# Altium footprint library WR-WTB.PcbLib: 259 footprints (part 15 of 17)
Each footprint in its own frame and in the unit in brackets; x right, y up, seen from the top. Pads: shape width x height; smd on the part's side, far side on the other; paste and mask are expansions set on the pad; w line width, h text height; cw(c..) or ccw(c..) is an arc to the next point about the centre after c.
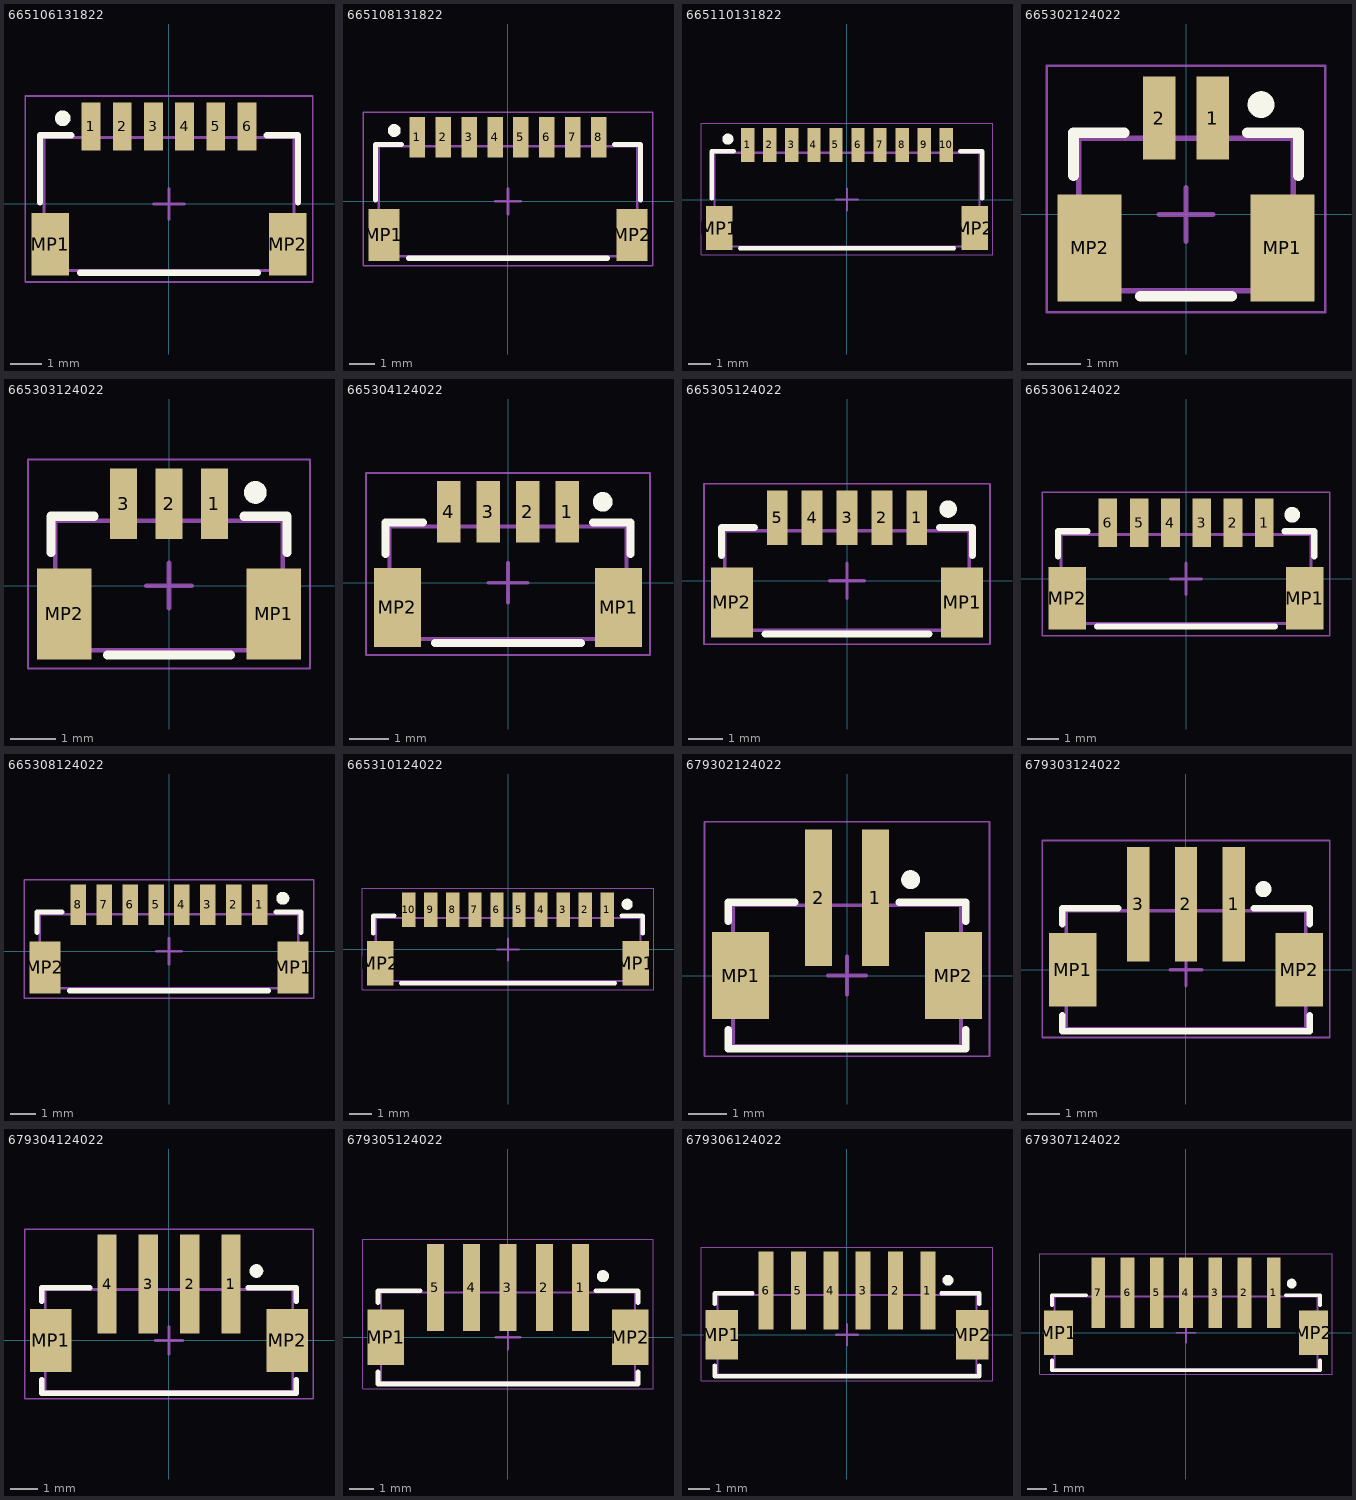
[diagram p14: the footprints below, top view; thin cyan lines are the x and y axes]

## 665106131822 [mm] "1.00 mm SMT Male Horizontal Shrouded, 6p"
height 3.1
pads (8):
  rect 0.6x1.55 smd: 1(-2.5,2.48) 2(-1.5,2.48) 3(-0.5,2.48) 4(0.5,2.48) 5(1.5,2.48) 6(2.5,2.48)
  rect 1.2x2 smd: MP1(-3.8,-1.295) MP2(3.8,-1.295)
Top Overlay:
  circle w0.25: c-3.4,2.743 r0.125
  lines w0.2: -4.125,0.05 -4.125,2.2 -3.125,2.2 ; -2.85,-2.2 2.85,-2.2 ; 3.125,2.2 4.125,2.2 4.125,0.05
Top Assembly:
  lines w0.1: -2.6,2.125 -2.6,2.825 -2.4,2.825 -2.4,2.125 ; -1.6,2.125 -1.6,2.825 -1.4,2.825 -1.4,2.125 ; -0.6,2.125 -0.6,2.825 -0.4,2.825 -0.4,2.125 ; 0.4,2.125 0.4,2.825 0.6,2.825 0.6,2.125 ; 1.4,2.125 1.4,2.825 1.6,2.825 1.6,2.125 ; 2.4,2.125 2.4,2.825 2.6,2.825 2.6,2.125 ; -4,-2.125 4,-2.125 4,2.125 -4,2.125 -4,-2.125
Top Designator:
  text ".Designator" at -3.647,-0.357 h1
Top Courtyard:
  lines w0.05: -4.6,-2.495 -4.6,3.455 4.6,3.455 4.6,-2.495 -4.6,-2.495
Top Component Center:
  lines w0.1: -0.5,0 0.5,0 ; 0,-0.5 0,0.5
3D body "665106131822.stp": height 2.96, standoff 0, extent -4,-2.125 4,2.825

## 665108131822 [mm] "1.00 mm SMT Male Horizontal Shrouded, 8p"
height 3.1
pads (10):
  rect 0.6x1.55 smd: 1(-3.5,2.48) 2(-2.5,2.48) 3(-1.5,2.48) 4(-0.5,2.48) 5(0.5,2.48) 6(1.5,2.48) 7(2.5,2.48) 8(3.5,2.48)
  rect 1.2x2 smd: MP1(-4.8,-1.295) MP2(4.8,-1.295)
Top Overlay:
  circle w0.25: c-4.4,2.743 r0.125
  lines w0.2: -5.125,0.05 -5.125,2.2 -4.125,2.2 ; -3.85,-2.2 3.85,-2.2 ; 4.125,2.2 5.125,2.2 5.125,0.05
Top Assembly:
  lines w0.1: -3.6,2.125 -3.6,2.825 -3.4,2.825 -3.4,2.125 ; -2.6,2.125 -2.6,2.825 -2.4,2.825 -2.4,2.125 ; -1.6,2.125 -1.6,2.825 -1.4,2.825 -1.4,2.125 ; -0.6,2.125 -0.6,2.825 -0.4,2.825 -0.4,2.125 ; 0.4,2.125 0.4,2.825 0.6,2.825 0.6,2.125 ; 1.4,2.125 1.4,2.825 1.6,2.825 1.6,2.125 ; 2.4,2.125 2.4,2.825 2.6,2.825 2.6,2.125 ; 3.4,2.125 3.4,2.825 3.6,2.825 3.6,2.125 ; -5,-2.125 -5,2.125 5,2.125 5,-2.125 -5,-2.125
Top Designator:
  text ".Designator" at -3.647,-0.357 h1
Top Courtyard:
  lines w0.05: -5.6,-2.495 5.6,-2.495 5.6,3.455 -5.6,3.455 -5.6,-2.495
Top Component Center:
  lines w0.1: -0.5,0 0.5,0 ; 0,-0.5 0,0.5
3D body "665108131822.stp": height 2.96, standoff 0, extent -5,-2.125 5,2.825

## 665110131822 [mm] "1.00 mm SMT Male Horizontal Shrouded, 10p"
height 3.1
pads (12):
  rect 0.6x1.55 smd: 1(-4.5,2.48) 2(-3.5,2.48) 3(-2.5,2.48) 4(-1.5,2.48) 5(-0.5,2.48) 6(0.5,2.48) 7(1.5,2.48) 8(2.5,2.48) 9(3.5,2.48) 10(4.5,2.48)
  rect 1.2x2 smd: MP1(-5.8,-1.295) MP2(5.8,-1.295)
Top Overlay:
  circle w0.25: c-5.4,2.743 r0.125
  lines w0.2: -6.125,0.05 -6.125,2.2 -5.125,2.2 ; -4.85,-2.2 4.85,-2.2 ; 5.125,2.2 6.125,2.2 6.125,0.05
Top Assembly:
  lines w0.1: -4.6,2.125 -4.6,2.825 -4.4,2.825 -4.4,2.125 ; -3.6,2.125 -3.6,2.825 -3.4,2.825 -3.4,2.125 ; -2.6,2.125 -2.6,2.825 -2.4,2.825 -2.4,2.125 ; -1.6,2.125 -1.6,2.825 -1.4,2.825 -1.4,2.125 ; -0.6,2.125 -0.6,2.825 -0.4,2.825 -0.4,2.125 ; 0.4,2.125 0.4,2.825 0.6,2.825 0.6,2.125 ; 1.4,2.125 1.4,2.825 1.6,2.825 1.6,2.125 ; 2.4,2.125 2.4,2.825 2.6,2.825 2.6,2.125 ; 3.4,2.125 3.4,2.825 3.6,2.825 3.6,2.125 ; 4.4,2.125 4.4,2.825 4.6,2.825 4.6,2.125 ; -6,-2.125 -6,2.125 6,2.125 6,-2.125 -6,-2.125
Top Designator:
  text ".Designator" at -3.647,-0.357 h1
Top Courtyard:
  lines w0.05: -6.6,-2.495 6.6,-2.495 6.6,3.455 -6.6,3.455 -6.6,-2.495
Top Component Center:
  lines w0.1: -0.5,0 0.5,0 ; 0,-0.5 0,0.5
3D body "665110131822.stp": height 2.96, standoff 0, extent -6,-2.125 6,2.825

## 665302124022 [mm] "1.00 mm SMT Male Vertical Shrouded Header, 2p"
height 3.7
pads (4):
  rect 0.6x1.55 smd: 1(0.5,1.8) 2(-0.5,1.8)
  rect 1.2x2 smd: MP1(1.8,-0.625) MP2(-1.8,-0.625)
Top Overlay:
  circle w0.25: c1.4,2.05 r0.125
  lines w0.2: -2.1,0.725 -2.1,1.525 -1.15,1.525 ; -0.85,-1.525 0.85,-1.525 ; 1.15,1.525 2.1,1.525 2.1,0.725
Top Assembly:
  lines w0.1: -0.6,1.425 -0.6,2.125 -0.4,2.125 -0.4,1.425 ; 0.4,1.425 0.4,2.125 0.6,2.125 0.6,1.425 ; -2,-1.425 -2,1.425 2,1.425 2,-1.425 -2,-1.425
Top Designator:
  text ".Designator" at -3.647,-0.357 h1
Top Courtyard:
  lines w0.05: -2.6,-1.825 -2.6,2.775 2.6,2.775 2.6,-1.825 -2.6,-1.825
Top Component Center:
  lines w0.1: -0.5,0 0.5,0 ; 0,-0.5 0,0.5
3D body "665302124022.stp": height 4.28, standoff -0.02, extent -2,-1.425 2,2.121

## 665303124022 [mm] "1.00 mm SMT Male Vertical Shrouded Header, 3p"
height 3.7
pads (5):
  rect 0.6x1.55 smd: 1(1,1.8) 2(0,1.8) 3(-1,1.8)
  rect 1.2x2 smd: MP1(2.3,-0.625) MP2(-2.3,-0.625)
Top Overlay:
  circle w0.25: c1.9,2.05 r0.125
  lines w0.2: -2.6,0.725 -2.6,1.525 -1.65,1.525 ; -1.35,-1.525 1.35,-1.525 ; 1.65,1.525 2.6,1.525 2.6,0.725
Top Assembly:
  lines w0.1: -1.1,1.425 -1.1,2.125 -0.9,2.125 -0.9,1.425 ; -0.1,1.425 -0.1,2.125 0.1,2.125 0.1,1.425 ; 0.9,1.425 0.9,2.125 1.1,2.125 1.1,1.425 ; -2.5,-1.425 -2.5,1.425 2.5,1.425 2.5,-1.425 -2.5,-1.425
Top Designator:
  text ".Designator" at -3.647,-0.357 h1
Top Courtyard:
  lines w0.05: -3.1,-1.825 -3.1,2.775 3.1,2.775 3.1,-1.825 -3.1,-1.825
Top Component Center:
  lines w0.1: -0.5,0 0.5,0 ; 0,-0.5 0,0.5
3D body "665303124022.stp": height 4.28, standoff -0.02, extent -2.5,-1.425 2.5,2.121

## 665304124022 [mm] "1.00 mm SMT Male Vertical Shrouded Header, 4p"
height 3.7
pads (6):
  rect 0.6x1.55 smd: 1(1.5,1.8) 2(0.5,1.8) 3(-0.5,1.8) 4(-1.5,1.8)
  rect 1.2x2 smd: MP1(2.8,-0.625) MP2(-2.8,-0.625)
Top Overlay:
  circle w0.25: c2.4,2.05 r0.125
  lines w0.2: -3.1,0.725 -3.1,1.525 -2.15,1.525 ; -1.85,-1.525 1.85,-1.525 ; 2.15,1.525 3.1,1.525 3.1,0.725
Top Assembly:
  lines w0.1: -1.6,1.425 -1.6,2.125 -1.4,2.125 -1.4,1.425 ; -0.6,1.425 -0.6,2.125 -0.4,2.125 -0.4,1.425 ; 0.4,1.425 0.4,2.125 0.6,2.125 0.6,1.425 ; 1.4,1.425 1.4,2.125 1.6,2.125 1.6,1.425 ; -3,-1.425 3,-1.425 3,1.425 -3,1.425 -3,-1.425
Top Designator:
  text ".Designator" at -3.647,-0.357 h1
Top Courtyard:
  lines w0.05: -3.6,-1.825 3.6,-1.825 3.6,2.775 -3.6,2.775 -3.6,-1.825
Top Component Center:
  lines w0.1: -0.5,0 0.5,0 ; 0,-0.5 0,0.5
3D body "665304124022.stp": height 4.28, standoff -0.02, extent -3,-1.425 3,2.121

## 665305124022 [mm] "1.00 mm SMT Male Vertical Shrouded Header, 5p"
height 3.7
pads (7):
  rect 0.6x1.55 smd: 1(2,1.8) 2(1,1.8) 3(0,1.8) 4(-1,1.8) 5(-2,1.8)
  rect 1.2x2 smd: MP1(3.3,-0.625) MP2(-3.3,-0.625)
Top Overlay:
  circle w0.25: c2.9,2.05 r0.125
  lines w0.2: -3.6,0.725 -3.6,1.525 -2.65,1.525 ; -2.35,-1.525 2.35,-1.525 ; 2.65,1.525 3.6,1.525 3.6,0.725
Top Assembly:
  lines w0.1: -2.1,1.425 -2.1,2.125 -1.9,2.125 -1.9,1.425 ; -1.1,1.425 -1.1,2.125 -0.9,2.125 -0.9,1.425 ; -0.1,1.425 -0.1,2.125 0.1,2.125 0.1,1.425 ; 0.9,1.425 0.9,2.125 1.1,2.125 1.1,1.425 ; 1.9,1.425 1.9,2.125 2.1,2.125 2.1,1.425 ; -3.5,-1.425 3.5,-1.425 3.5,1.425 -3.5,1.425 -3.5,-1.425
Top Designator:
  text ".Designator" at -3.647,-0.357 h1
Top Courtyard:
  lines w0.05: -4.1,-1.825 4.1,-1.825 4.1,2.775 -4.1,2.775 -4.1,-1.825
Top Component Center:
  lines w0.1: -0.5,0 0.5,0 ; 0,-0.5 0,0.5
3D body "665305124022.stp": height 4.28, standoff -0.02, extent -3.5,-1.425 3.5,2.121

## 665306124022 [mm] "1.00 mm SMT Male Vertical Shrouded Header, 6p"
height 3.7
pads (8):
  rect 0.6x1.55 smd: 1(2.5,1.8) 2(1.5,1.8) 3(0.5,1.8) 4(-0.5,1.8) 5(-1.5,1.8) 6(-2.5,1.8)
  rect 1.2x2 smd: MP1(3.8,-0.625) MP2(-3.8,-0.625)
Top Overlay:
  circle w0.25: c3.4,2.05 r0.125
  lines w0.2: -4.1,0.725 -4.1,1.525 -3.15,1.525 ; -2.85,-1.525 2.85,-1.525 ; 3.15,1.525 4.1,1.525 4.1,0.725
Top Assembly:
  lines w0.1: -2.6,1.425 -2.6,2.125 -2.4,2.125 -2.4,1.425 ; -1.6,1.425 -1.6,2.125 -1.4,2.125 -1.4,1.425 ; -0.6,1.425 -0.6,2.125 -0.4,2.125 -0.4,1.425 ; 0.4,1.425 0.4,2.125 0.6,2.125 0.6,1.425 ; 1.4,1.425 1.4,2.125 1.6,2.125 1.6,1.425 ; 2.4,1.425 2.4,2.125 2.6,2.125 2.6,1.425 ; -4,-1.425 4,-1.425 4,1.425 -4,1.425 -4,-1.425
Top Designator:
  text ".Designator" at -3.647,-0.357 h1
Top Courtyard:
  lines w0.05: -4.6,-1.825 4.6,-1.825 4.6,2.775 -4.6,2.775 -4.6,-1.825
Top Component Center:
  lines w0.1: -0.5,0 0.5,0 ; 0,-0.5 0,0.5
3D body "665306124022.stp": height 4.28, standoff -0.02, extent -4,-1.425 4,2.121

## 665308124022 [mm] "1.00 mm SMT Male Vertical Shrouded Header, 8p"
height 3.7
pads (10):
  rect 0.6x1.55 smd: 1(3.5,1.8) 2(2.5,1.8) 3(1.5,1.8) 4(0.5,1.8) 5(-0.5,1.8) 6(-1.5,1.8) 7(-2.5,1.8) 8(-3.5,1.8)
  rect 1.2x2 smd: MP1(4.8,-0.625) MP2(-4.8,-0.625)
Top Overlay:
  circle w0.25: c4.4,2.05 r0.125
  lines w0.2: -5.1,0.725 -5.1,1.525 -4.15,1.525 ; -3.85,-1.525 3.85,-1.525 ; 4.15,1.525 5.1,1.525 5.1,0.725
Top Assembly:
  lines w0.1: -3.6,1.425 -3.6,2.125 -3.4,2.125 -3.4,1.425 ; -2.6,1.425 -2.6,2.125 -2.4,2.125 -2.4,1.425 ; -1.6,1.425 -1.6,2.125 -1.4,2.125 -1.4,1.425 ; -0.6,1.425 -0.6,2.125 -0.4,2.125 -0.4,1.425 ; 0.4,1.425 0.4,2.125 0.6,2.125 0.6,1.425 ; 1.4,1.425 1.4,2.125 1.6,2.125 1.6,1.425 ; 2.4,1.425 2.4,2.125 2.6,2.125 2.6,1.425 ; 3.4,1.425 3.4,2.125 3.6,2.125 3.6,1.425 ; -5,-1.425 5,-1.425 5,1.425 -5,1.425 -5,-1.425
Top Designator:
  text ".Designator" at -3.647,-0.357 h1
Top Courtyard:
  lines w0.05: -5.6,-1.825 5.6,-1.825 5.6,2.775 -5.6,2.775 -5.6,-1.825
Top Component Center:
  lines w0.1: -0.5,0 0.5,0 ; 0,-0.5 0,0.5
3D body "665308124022.stp": height 4.28, standoff -0.02, extent -5,-1.425 5,2.121

## 665310124022 [mm] "1.00 mm SMT Male Vertical Shrouded Header, 10p"
height 3.7
pads (12):
  rect 0.6x1.55 smd: 1(4.5,1.8) 2(3.5,1.8) 3(2.5,1.8) 4(1.5,1.8) 5(0.5,1.8) 6(-0.5,1.8) 7(-1.5,1.8) 8(-2.5,1.8) 9(-3.5,1.8) 10(-4.5,1.8)
  rect 1.2x2 smd: MP1(5.8,-0.625) MP2(-5.8,-0.625)
Top Overlay:
  circle w0.25: c5.4,2.05 r0.125
  lines w0.2: -6.1,0.725 -6.1,1.525 -5.15,1.525 ; -4.85,-1.525 4.85,-1.525 ; 5.15,1.525 6.1,1.525 6.1,0.725
Top Assembly:
  lines w0.1: -4.6,1.425 -4.6,2.125 -4.4,2.125 -4.4,1.425 ; -3.6,1.425 -3.6,2.125 -3.4,2.125 -3.4,1.425 ; -2.6,1.425 -2.6,2.125 -2.4,2.125 -2.4,1.425 ; -1.6,1.425 -1.6,2.125 -1.4,2.125 -1.4,1.425 ; -0.6,1.425 -0.6,2.125 -0.4,2.125 -0.4,1.425 ; 0.4,1.425 0.4,2.125 0.6,2.125 0.6,1.425 ; 1.4,1.425 1.4,2.125 1.6,2.125 1.6,1.425 ; 2.4,1.425 2.4,2.125 2.6,2.125 2.6,1.425 ; 3.4,1.425 3.4,2.125 3.6,2.125 3.6,1.425 ; 4.4,1.425 4.4,2.125 4.6,2.125 4.6,1.425 ; -6,-1.425 6,-1.425 6,1.425 -6,1.425 -6,-1.425
Top Designator:
  text ".Designator" at -3.647,-0.357 h1
Top Courtyard:
  lines w0.05: -6.6,-1.825 6.6,-1.825 6.6,2.775 -6.6,2.775 -6.6,-1.825
Top Component Center:
  lines w0.1: -0.5,0 0.5,0 ; 0,-0.5 0,0.5
3D body "665310124022.stp": height 4.28, standoff -0.02, extent -6,-1.425 6,2.121

## 679302124022 [mm] "1.50mm SMT Male Vertical Shrouded Header, 2p"
height 5
pads (4):
  rect 0.7x3.6 smd: 1(0.75,2.05) 2(-0.75,2.05)
  rect 1.5x2.3 smd: MP1(-2.8,0) MP2(2.8,0)
Top Overlay:
  circle w0.25: c1.675,2.525 r0.125
  lines w0.2: -3.125,-1.425 -3.125,-1.925 3.125,-1.925 3.125,-1.425 ; -3.125,1.425 -3.125,1.925 -1.375,1.925 ; 1.375,1.925 3.125,1.925 3.125,1.425
Top Assembly:
  lines w0.1: -3,-1.85 -3,1.85 3,1.85 3,-1.85 -3,-1.85
Top Designator:
  text ".Designator" at -3.647,-0.357 h1
Top Courtyard:
  lines w0.05: -3.75,-2.125 -3.75,4.05 3.75,4.05 3.75,-2.125 -3.75,-2.125
Top Component Center:
  lines w0.1: -0.5,0 0.5,0 ; 0,-0.5 0,0.5
3D body "679302124022.stp": height 5.49, standoff -0.01, extent -3,-1.85 3,3.35

## 679303124022 [mm] "1.50mm SMT Male Vertical Shrouded Header, 3p"
height 5
pads (5):
  rect 0.7x3.6 smd: 1(1.5,2.05) 2(0,2.05) 3(-1.5,2.05)
  rect 1.5x2.3 smd: MP1(-3.55,0) MP2(3.55,0)
Top Overlay:
  circle w0.25: c2.425,2.525 r0.125
  lines w0.2: -3.875,-1.425 -3.875,-1.925 3.875,-1.925 3.875,-1.425 ; -3.875,1.425 -3.875,1.925 -2.125,1.925 ; 2.125,1.925 3.875,1.925 3.875,1.425
Top Assembly:
  lines w0.1: -3.75,-1.85 3.75,-1.85 3.75,1.85 -3.75,1.85 -3.75,-1.85
Top Designator:
  text ".Designator" at -3.647,-0.357 h1
Top Courtyard:
  lines w0.05: -4.5,-2.125 4.5,-2.125 4.5,4.05 -4.5,4.05 -4.5,-2.125
Top Component Center:
  lines w0.1: -0.5,0 0.5,0 ; 0,-0.5 0,0.5
3D body "679303124022.stp": height 5.49, standoff -0.01, extent -3.75,-1.85 3.75,3.35

## 679304124022 [mm] "1.50mm SMT Male Vertical Shrouded Header, 4p"
height 5
pads (6):
  rect 0.7x3.6 smd: 1(2.25,2.05) 2(0.75,2.05) 3(-0.75,2.05) 4(-2.25,2.05)
  rect 1.5x2.3 smd: MP1(-4.3,0) MP2(4.3,0)
Top Overlay:
  circle w0.25: c3.175,2.525 r0.125
  lines w0.2: -4.625,-1.425 -4.625,-1.925 4.625,-1.925 4.625,-1.425 ; -4.625,1.425 -4.625,1.925 -2.875,1.925 ; 2.875,1.925 4.625,1.925 4.625,1.425
Top Assembly:
  lines w0.1: -4.5,-1.85 -4.5,1.85 4.5,1.85 4.5,-1.85 -4.5,-1.85
Top Designator:
  text ".Designator" at -3.647,-0.357 h1
Top Courtyard:
  lines w0.05: -5.25,-2.125 -5.25,4.05 5.25,4.05 5.25,-2.125 -5.25,-2.125
Top Component Center:
  lines w0.1: -0.5,0 0.5,0 ; 0,-0.5 0,0.5
3D body "679304124022.stp": height 5.49, standoff -0.01, extent -4.5,-1.85 4.5,3.35

## 679305124022 [mm] "1.50mm SMT Male Vertical Shrouded Header, 5p"
height 5
pads (7):
  rect 0.7x3.6 smd: 1(3,2.05) 2(1.5,2.05) 3(0,2.05) 4(-1.5,2.05) 5(-3,2.05)
  rect 1.5x2.3 smd: MP1(-5.05,0) MP2(5.05,0)
Top Overlay:
  circle w0.25: c3.925,2.525 r0.125
  lines w0.2: -5.375,-1.425 -5.375,-1.925 5.375,-1.925 5.375,-1.425 ; -5.375,1.425 -5.375,1.925 -3.625,1.925 ; 3.625,1.925 5.375,1.925 5.375,1.425
Top Assembly:
  lines w0.1: -5.25,-1.85 5.25,-1.85 5.25,1.85 -5.25,1.85 -5.25,-1.85
Top Designator:
  text ".Designator" at -3.647,-0.357 h1
Top Courtyard:
  lines w0.05: -6,-2.125 6,-2.125 6,4.05 -6,4.05 -6,-2.125
Top Component Center:
  lines w0.1: -0.5,0 0.5,0 ; 0,-0.5 0,0.5
3D body "679305124022.stp": height 5.49, standoff -0.01, extent -5.25,-1.85 5.25,3.35

## 679306124022 [mm] "1.50mm SMT Male Vertical Shrouded Header, 6p"
height 5
pads (8):
  rect 0.7x3.6 smd: 1(3.75,2.05) 2(2.25,2.05) 3(0.75,2.05) 4(-0.75,2.05) 5(-2.25,2.05) 6(-3.75,2.05)
  rect 1.5x2.3 smd: MP1(-5.8,0) MP2(5.8,0)
Top Overlay:
  circle w0.25: c4.675,2.525 r0.125
  lines w0.2: -6.125,-1.425 -6.125,-1.925 6.125,-1.925 6.125,-1.425 ; -6.125,1.425 -6.125,1.925 -4.375,1.925 ; 4.375,1.925 6.125,1.925 6.125,1.425
Top Assembly:
  lines w0.1: -6,-1.85 -6,1.85 6,1.85 6,-1.85 -6,-1.85
Top Designator:
  text ".Designator" at -3.647,-0.357 h1
Top Courtyard:
  lines w0.05: -6.75,-2.125 -6.75,4.05 6.75,4.05 6.75,-2.125 -6.75,-2.125
Top Component Center:
  lines w0.1: -0.5,0 0.5,0 ; 0,-0.5 0,0.5
3D body "679306124022.stp": height 5.49, standoff -0.01, extent -6,-1.85 6,3.35

## 679307124022 [mm] "1.50mm SMT Male Vertical Shrouded Header, 7p"
height 5
pads (9):
  rect 0.7x3.6 smd: 1(4.5,2.05) 2(3,2.05) 3(1.5,2.05) 4(0,2.05) 5(-1.5,2.05) 6(-3,2.05) 7(-4.5,2.05)
  rect 1.5x2.3 smd: MP1(-6.55,0) MP2(6.55,0)
Top Overlay:
  circle w0.25: c5.425,2.525 r0.125
  lines w0.2: -6.875,-1.425 -6.875,-1.925 6.875,-1.925 6.875,-1.425 ; -6.875,1.425 -6.875,1.925 -5.125,1.925 ; 5.125,1.925 6.875,1.925 6.875,1.425
Top Assembly:
  lines w0.1: -6.75,-1.85 6.75,-1.85 6.75,1.85 -6.75,1.85 -6.75,-1.85
Top Designator:
  text ".Designator" at -3.647,-0.357 h1
Top Courtyard:
  lines w0.05: -7.5,-2.125 7.5,-2.125 7.5,4.05 -7.5,4.05 -7.5,-2.125
Top Component Center:
  lines w0.1: -0.5,0 0.5,0 ; 0,-0.5 0,0.5
3D body "679307124022.stp": height 5.49, standoff -0.01, extent -6.75,-1.85 6.75,3.35